# Altium footprint library 飞控.PcbLib: 16 footprints
Each footprint in its own frame and in the unit in brackets; x right, y up, seen from the top. Pads: shape width x height; smd on the part's side, far side on the other; paste and mask are expansions set on the pad; w line width, h text height; cw(c..) or ccw(c..) is an arc to the next point about the centre after c.
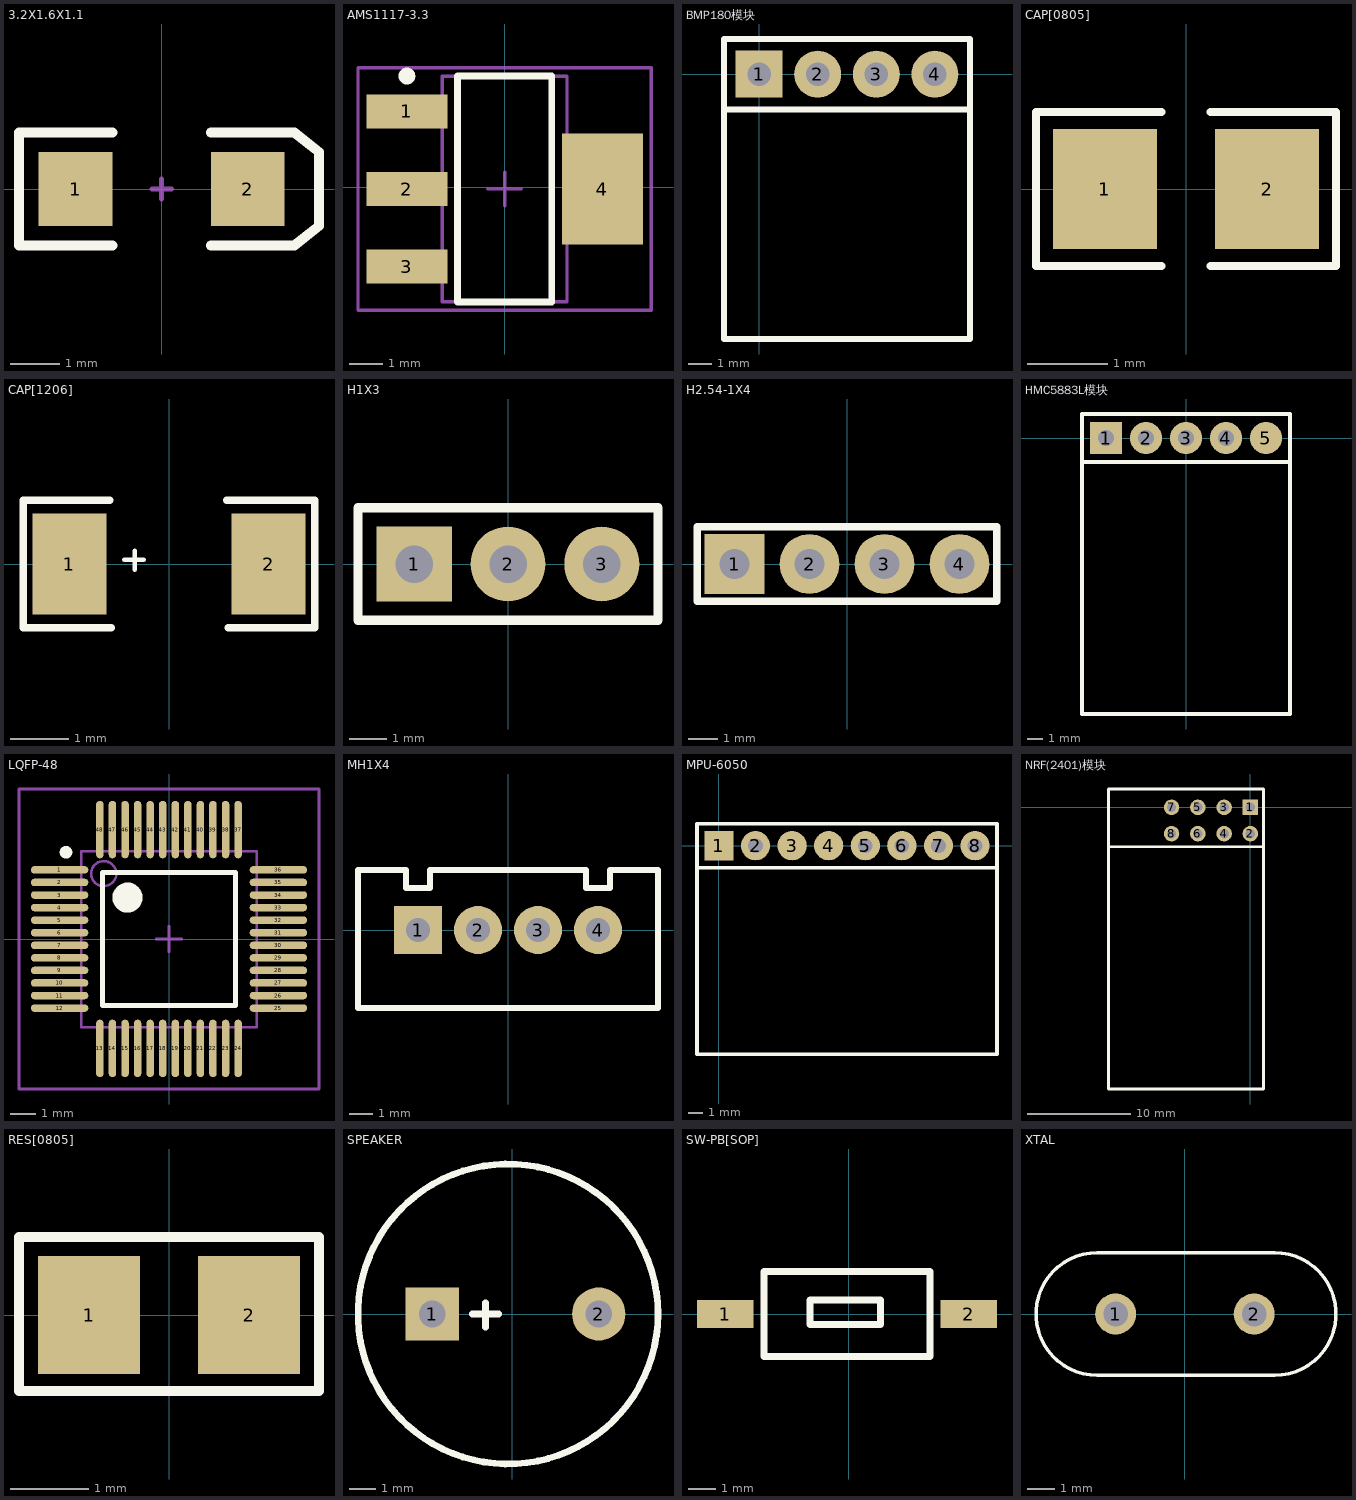
[diagram p0: the footprints below, top view; thin cyan lines are the x and y axes]

## 3.2X1.6X1.1 [mm] "SMT LED; 2 Flat Leads"
height 1.2
pads (2):
  rect 1.5x1.5 smd: 1(-1.75,0) 2(1.75,0)
Top Overlay:
  lines w0.2: -1,-1.15 -2.9,-1.15 -2.9,1.15 -1,1.15 ; 1,-1.15 2.7,-1.15 3.2,-0.75 3.2,0.75 2.7,1.15 1,1.15
Mechanical 1:
  lines w0.1: -0.2,0 0.2,0 ; 0,-0.2 0,0.2

## AMS1117-3.3 [mm]
pads (4):
  rect 2.4x1 smd: 1(-2.9,2.249) 2(-2.9,-0.051) 3(-2.9,-2.351)
  rect 2.4x3.3 smd: 4(2.9,-0.051)
Top Overlay:
  circle w0.25: c-2.9,3.299 r0.125
  lines w0.2: -1.4,-3.401 1.4,-3.401 1.4,3.299 -1.4,3.299 -1.4,-3.401
Mechanical 13:
  lines w0.1: -1.85,-3.401 1.85,-3.401 1.85,3.299 -1.85,3.299 -1.85,-3.401
Mechanical 15:
  lines w0.1: -0.5,-0.051 0.5,-0.051 ; 0,-0.551 0,0.449 ; -4.35,-3.651 4.35,-3.651 4.35,3.549 -4.35,3.549 -4.35,-3.651
3D body: height 1.7, standoff 0, extent -1.85,-3.401 1.85,3.299

## BMP180模块 [mil]
height 62.99
pads (4):
  rect 80x80 hole 40: 1(0,0)
  round 80 hole 40: 2(100,0) 3(200,0) 4(300,0)
Top Overlay:
  lines w10: -60,60 360,60 ; -60,60 -60,-60 360,-60 360,60 ; -60,60 -60,-451.81 360,-451.81 360,60
3D body: height 336.22, standoff -118.11, extent -49.99,-50 350.01,50

## CAP[0805] [mm]
height 1.6
pads (2):
  rect 1.3x1.5 smd: 1(-1.016,0) 2(1.016,0)
Top Overlay:
  lines w0.102: -0.305,-0.965 -1.88,-0.965 -1.88,0.965 -0.305,0.965 ; 0.305,-0.965 1.88,-0.965 1.88,0.965 0.305,0.965
3D body: height 0.78, standoff 0, extent -1,-0.625 1,0.625

## CAP[1206] [mil]
pads (2):
  rect 50x68 smd: 1(-67,0) 2(67,0)
Top Overlay:
  lines w3: -30,3 -17,3 ; -23,-4 -23,9
  lines w5: -40,43 -98,43 -98,-43 -39,-43 ; 39,43 98,43 98,-43 40,-43
3D body: height 37.01, standoff 0, extent -63.99,-31 61.99,31.99

## H1X3 [mil]
height 350
pads (3):
  rect 80x80 hole 40: 1(-100,0)
  round 80 hole 40: 2(0,0) 3(100,0)
Top Overlay:
  lines w10: -160,-60 -160,60 160,60 160,-60 -160,-60
3D body: height 336.22, standoff -118.11, extent -150,-49.99 150,50.01

## H2.54-1X4 [mil]
height 62.99
pads (4):
  rect 80x80 hole 40: 1(-150,0)
  round 80 hole 40: 2(-50,0) 3(50,0) 4(150,0)
Top Overlay:
  lines w10: -200,-50 200,-50 200,50 -200,50 -200,-50
3D body: height 336.22, standoff -118.11, extent -200,-50 200,50

## HMC5883L模块 [mil]
height 62.99
pads (5):
  rect 80x80 hole 40: 1(-200,0)
  round 80 hole 40: 2(-100,0) 3(0,0) 4(100,0)
  round 80 smd: 5(200,0)
Top Overlay:
  lines w10: -260,-690 260,-690 ; -260,-688.03 -260,60 ; 260,-688.03 260,60 ; -260,60 260,60 ; -260,60 -260,-60 260,-60 260,60
3D body: height 336.22, standoff -118.11, extent -249.99,-49.99 250.01,50.01

## LQFP-48 [mm]
height 1.6
pads (48):
  oval 2.286x0.3 smd: 1(-4.354,2.75) 2(-4.354,2.25) 3(-4.354,1.75) 4(-4.354,1.25) 5(-4.354,0.75) 6(-4.354,0.25) 7(-4.354,-0.25) 8(-4.354,-0.75) 9(-4.354,-1.25) 10(-4.354,-1.75) 11(-4.354,-2.25) 12(-4.354,-2.75) 25(4.354,-2.75) 26(4.354,-2.25) 27(4.354,-1.75) 28(4.354,-1.25) 29(4.354,-0.75) 30(4.354,-0.25) 31(4.354,0.25) 32(4.354,0.75) 33(4.354,1.25) 34(4.354,1.75) 35(4.354,2.25) 36(4.354,2.75)
  oval 0.3x2.286 smd: 13(-2.75,-4.354) 14(-2.25,-4.354) 15(-1.75,-4.354) 16(-1.25,-4.354) 17(-0.75,-4.354) 18(-0.25,-4.354) 19(0.25,-4.354) 20(0.75,-4.354) 21(1.25,-4.354) 22(1.75,-4.354) 23(2.25,-4.354) 24(2.75,-4.354) 37(2.75,4.354) 38(2.25,4.354) 39(1.75,4.354) 40(1.25,4.354) 41(0.75,4.354) 42(0.25,4.354) 43(-0.25,4.354) 44(-0.75,4.354) 45(-1.25,4.354) 46(-1.75,4.354) 47(-2.25,4.354) 48(-2.75,4.354)
Top Overlay:
  circle w0.6: c-1.65,1.65 r0.3
  circle w0.25: c-4.1,3.45 r0.125
  lines w0.2: -2.65,-2.65 2.65,-2.65 2.65,2.65 -2.65,2.65 -2.65,-2.65
Mechanical 13:
  circle w0.1: c-2.6,2.6 r0.5
  lines w0.1: -3.5,-3.505 3.5,-3.505 3.5,3.5 -3.5,3.5 -3.5,-3.505
Mechanical 15:
  lines w0.1: -0.5,0 0.5,0 ; 0,-0.5 0,0.5 ; -5.969,-5.969 5.969,-5.969 5.969,5.969 -5.969,5.969 -5.969,-5.969
3D body: height 1.6, standoff 0, extent -3.5,-3.5 3.5,3.5

## MH1X4 [mil]
height 300
pads (4):
  rect 80x80 hole 40: 1(-150,0)
  round 80 hole 40: 2(-50,0) 3(50,0) 4(150,0)
Top Overlay:
  lines w10: -250,-130 250,-130 250,100 170,100 170,70 130,70 130,100 -110,100 -130,100 -130,70 -170,70 -170,100 -250,100 -250,-130
3D body: height 236.22, standoff -98.43, extent -245,-84.6 247.13,65

## MPU-6050 [mil]
height 300
pads (8):
  rect 80x80 smd: 1(0,0)
  round 80 hole 40: 2(100,0) 5(400,0) 6(500,0) 7(600,0) 8(700,0)
  round 80 smd: 3(200,0) 4(300,0)
Top Overlay:
  lines w10: -60,60 -60,-569.92 760,-569.92 760,60 ; -60,60 -60,-60 760,-60 760,60 ; -60,60 760,60
3D body: height 336.22, standoff -118.11, extent -49.99,-49.99 750.01,50.01

## NRF(2401)模块 [mm]
height 1.6
pads (8):
  rect 1.5x1.5 hole 0.9: 1(0,0)
  round 1.5 hole 0.9: 2(0,-2.54) 3(-2.54,0) 4(-2.54,-2.54) 5(-5.08,0) 6(-5.08,-2.54) 7(-7.62,0) 8(-7.62,-2.54)
Top Overlay:
  lines w0.254: -13.716,-3.81 1.27,-3.81 ; -13.716,-27.222 1.27,-27.222 1.27,1.778 -13.716,1.778 -13.716,-27.222

## RES[0805] [mm]
height 0.711
pads (2):
  rect 1.3x1.5 smd: 1(-1.016,0) 2(1.016,0)
Top Overlay:
  lines w0.127: -1.905,-0.965 1.905,-0.965 1.905,0.991 -1.905,0.991 -1.905,-0.965
3D body: height 0.55, standoff 0, extent -1,-0.63 1,0.63

## SPEAKER [mil]
height 400
pads (2):
  rect 80x80 hole 40: 1(-120,0)
  round 80 hole 40: 2(130,0)
Top Overlay:
  circle w10: c-6.16,0 r225.16
  lines w10: -60,0 -20,0 ; -40,-20 -40,17

## SW-PB[SOP] [mil]
height 62.99
pads (2):
  rect 80x40 smd: 1(-175,0) 2(170,0)
Top Overlay:
  lines w10: -120,-60 115,-60 115,60 -120,60 -120,-60 ; -55,-15 -55,15 -55,20 45,20 45,-15 -55,-15

## XTAL [mm]
height 1.6
pads (2):
  round 1.5 hole 0.9: 1(-2.54,0) 2(2.54,0)
Top Overlay:
  lines w0.127: -3.21,-2.25 cw(c-3.21,0) -3.21,2.25 3.29,2.25 cw(c3.29,0) 3.29,-2.25 -3.21,-2.25
3D body: height 5.53, standoff -1.97, extent -5.675,-2.286 5.675,2.364